# EAGLE library part PCF8563 (library C3-NXP)
Real-time Clock/Calendar Datasheet <http://www.nxp.com/documents/data_sheet/PCF8563.pdf> 1V0-5V5 Clock Operating Voltage Programmable Clock Output I2C Serial Interface, 100/400kHz Alarm and Timer Functions Internal POR
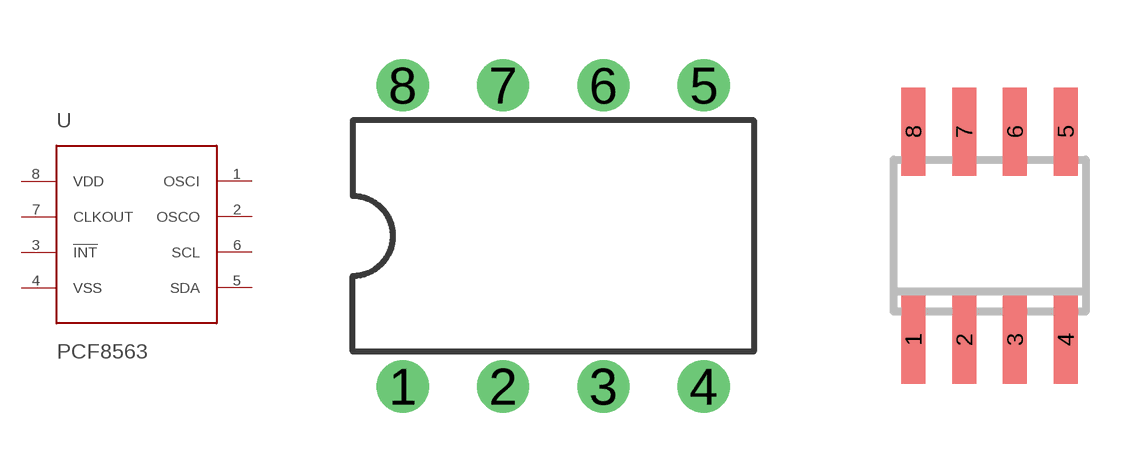
[diagram p0: symbol with the pads of DIL08; footprints DIL08, SO08]

Designator prefix U

## PCF8563P/F4  [DIL08]
1  OSCI  pas
2  OSCO  pas
3  !INT  out
4  VSS  pas
5  SDA
6  SCL
7  CLKOUT  out
8  VDD  pwr

## PCF8563T/5  [SO08]
Pads as for DIL08

## PCF8563TS/5  [TSSOP8]
Pads as for DIL08

## Footprint DIL08 (pad centres in mm)
Dual In Line Package
drill 0.813 pad 1.27: 1 -3.81,-3.81; 2 -1.27,-3.81; 3 1.27,-3.81; 4 3.81,-3.81; 5 3.81,3.81; 6 1.27,3.81; 7 -1.27,3.81; 8 -3.81,3.81

## Footprint SO08 (pad centres in mm)
Small Outline Package 8 NS Package M08A
smd 0.6 x 2.2: 1 -1.905,-2.6; 2 -0.635,-2.6; 3 0.635,-2.6; 4 1.905,-2.6; 5 1.905,2.6; 6 0.635,2.6; 7 -0.635,2.6; 8 -1.905,2.6

## Footprint TSSOP8 (pad centres in mm)
8-Lead Thin Shrink Small Outline Package Source: http://www.analog.com/static/imported-files/data_sheets/AD8541_8542_8544.pdf
smd 0.9 x 0.35: 1 -2.875,0.975; 2 -2.875,0.325; 3 -2.875,-0.325; 4 -2.875,-0.975; 5 2.875,-0.975; 6 2.875,-0.325; 7 2.875,0.325; 8 2.875,0.975